# Altium schematic symbol library MCRM3HAF-10R-V-B.SchLib: 2 symbols
Pins are listed as number, name and electrical type; pins without a type are passive.

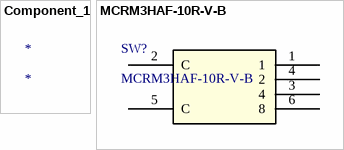
[diagram p0: symbols Component_1 to MCRM3HAF-10R-V-B]

## Component_1
designator *

## MCRM3HAF-10R-V-B
designator SW?
No Description Available; Mfr_Name: Multicomp; Type: DEV; Copyright: Copyright (C) 2023 Ultra Librarian. All rights reserved.; Manufacturer_Part_Number: MCRM3HAF-10R-V-B; RefDes: RefDes
footprint MCRM3H_MTC
pins: 1, 2 C, 3 4, 4 2, 5 C, 6 8